# EAGLE library part WRL-13678 (library dooba)
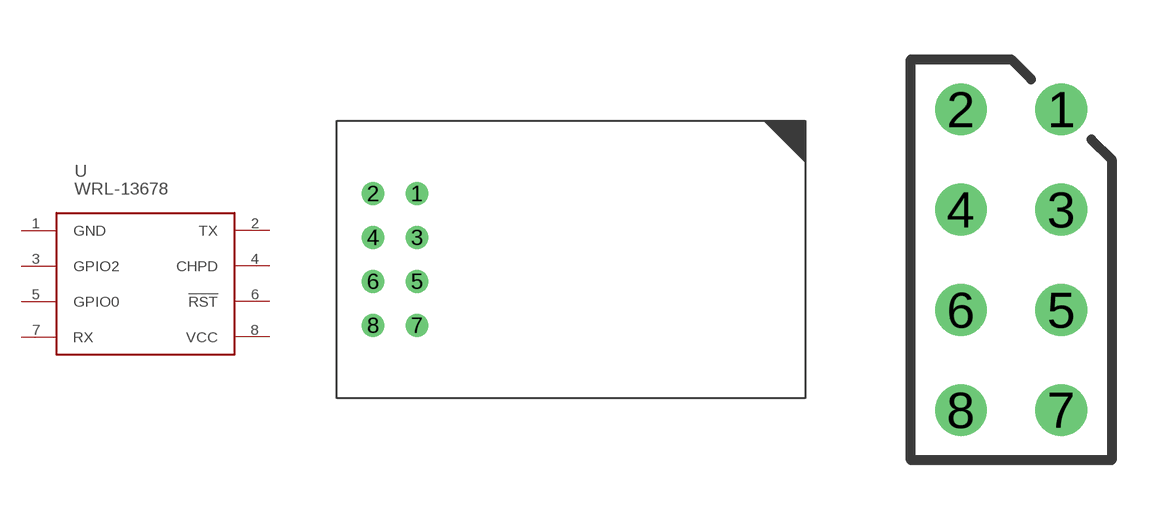
[diagram p13: symbol with the pads of WRL-13678; footprints WRL-13678, WRL-13678-QUIET]

Designator prefix U

## WRL-13678WRL-13678  [WRL-13678]
1  GND
2  TX
3  GPIO2
4  CHPD
5  GPIO0
6  !RST
7  RX
8  VCC

## WRL-13678WRL-13678-QUIET  [WRL-13678-QUIET]
Pads as for WRL-13678

## Footprint WRL-13678 (pad centres in mm)
drill 0.8: 1 -8.89,3.81; 2 -11.43,3.81; 3 -8.89,1.27; 4 -11.43,1.27; 5 -8.89,-1.27; 6 -11.43,-1.27; 7 -8.89,-3.81; 8 -11.43,-3.81

## Footprint WRL-13678-QUIET (pad centres in mm)
drill 0.8: 1 -8.89,3.81; 2 -11.43,3.81; 3 -8.89,1.27; 4 -11.43,1.27; 5 -8.89,-1.27; 6 -11.43,-1.27; 7 -8.89,-3.81; 8 -11.43,-3.81